# Altium footprint library Buzzer.PcbLib: 2 footprints
Each footprint in its own frame and in the unit in brackets; x right, y up, seen from the top. Pads: shape width x height; smd on the part's side, far side on the other; paste and mask are expansions set on the pad; w line width, h text height; cw(c..) or ccw(c..) is an arc to the next point about the centre after c.
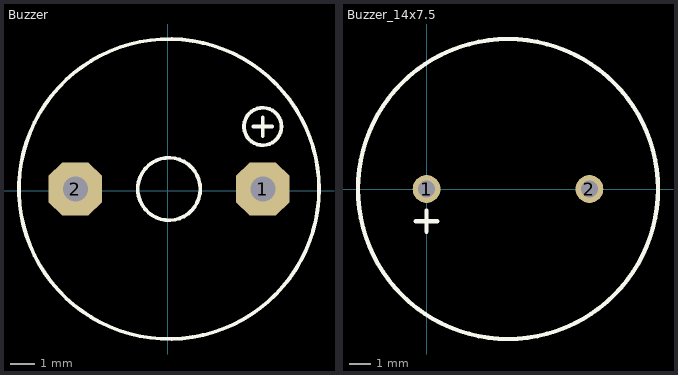
[diagram p0: the footprints below, top view; thin cyan lines are the x and y axes]

## Buzzer [mil]
pads (2):
  oct 85x85 hole 40: 1(152,3) 2(-148,3)
Top Overlay:
  circle w6: c152,103 r30
  circle w6: c2,3 r50
  circle w6: c2,3 r240
  lines w6: 137,103 167,103 ; 152,88 152,118
3D body "User Library-FM 12mm 300mil.STEP": height 385.83, standoff -118.11, extent -234.9,-232.21 237.54,240.23

## Buzzer_14x7.5 [mm]
height 0.001
pads (2):
  round 1.3 hole 0.8: 1(0,0) 2(7.6,0)
Top Overlay:
  circle w0.2: c3.8,0 r7
  lines w0.2: -0.5,-1.5 0.5,-1.5 ; 0,-2 0,-1
3D body "HMP14A.step": height 9.59, standoff -3.5, extent -3.045,-6.845 10.645,6.845